# EAGLE library part MFRC522 (library misc)
QFN-32_5x5x05P RF Transceiver ICs
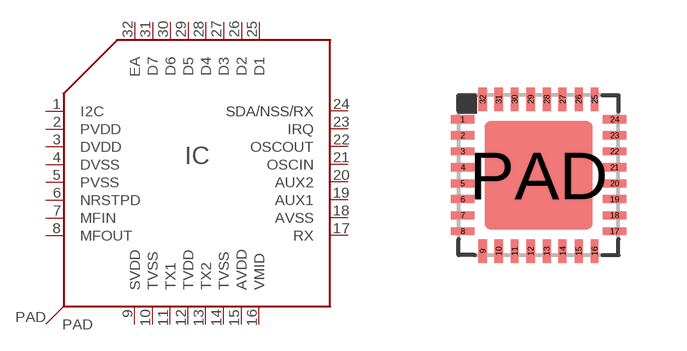
[diagram p82: symbol with the pads of QFN32(4X4); footprint QFN32(4X4)]

Designator prefix IC

## MFRC522 (LCSC#: C11322; MANF: NXP Semicon; MANF#: MFRC52202HN1,151)  [QFN32(4X4)]
1  I2C
2  PVDD
3  DVDD
4  DVSS
5  PVSS
6  NRSTPD
7  MFIN
8  MFOUT
9  SVDD
10  TVSS
11  TX1
12  TVDD
13  TX2
14  TVSS
15  AVDD
16  VMID
17  RX
18  AVSS
19  AUX1
20  AUX2
21  OSCIN
22  OSCOUT
23  IRQ
24  SDA/NSS/RX
25  D1
26  D2
27  D3
28  D4
29  D5
30  D6
31  D7
32  EA
PAD  PAD

## Footprint QFN32(4X4) (pad centres in mm)
Drawing <https://www.renesas.com/us/en/document/psc/l324x4-32-lead-thin-quad-flat-no-lead-plastic-package>
smd 0.6 x 0.2: 1 -1.9,1.4; 2 -1.9,1; 3 -1.9,0.6; 4 -1.9,0.2; 5 -1.9,-0.2; 6 -1.9,-0.6; 7 -1.9,-1; 8 -1.9,-1.4; 17 1.9,-1.4; 18 1.9,-1; 19 1.9,-0.6; 20 1.9,-0.2; 21 1.9,0.2; 22 1.9,0.6; 23 1.9,1; 24 1.9,1.4
smd 0.2 x 0.6: 9 -1.4,-1.9; 10 -1,-1.9; 11 -0.6,-1.9; 12 -0.2,-1.9; 13 0.2,-1.9; 14 0.6,-1.9; 15 1,-1.9; 16 1.4,-1.9; 25 1.4,1.9; 26 1,1.9; 27 0.6,1.9; 28 0.2,1.9; 29 -0.2,1.9; 30 -0.6,1.9; 31 -1,1.9; 32 -1.4,1.9
smd 2.7 x 2.7: PAD 0,0